# Altium footprint library Devices.PcbLib: 12 footprints
Each footprint in its own frame and in the unit in brackets; x right, y up, seen from the top. Pads: shape width x height; smd on the part's side, far side on the other; paste and mask are expansions set on the pad; w line width, h text height; cw(c..) or ccw(c..) is an arc to the next point about the centre after c.
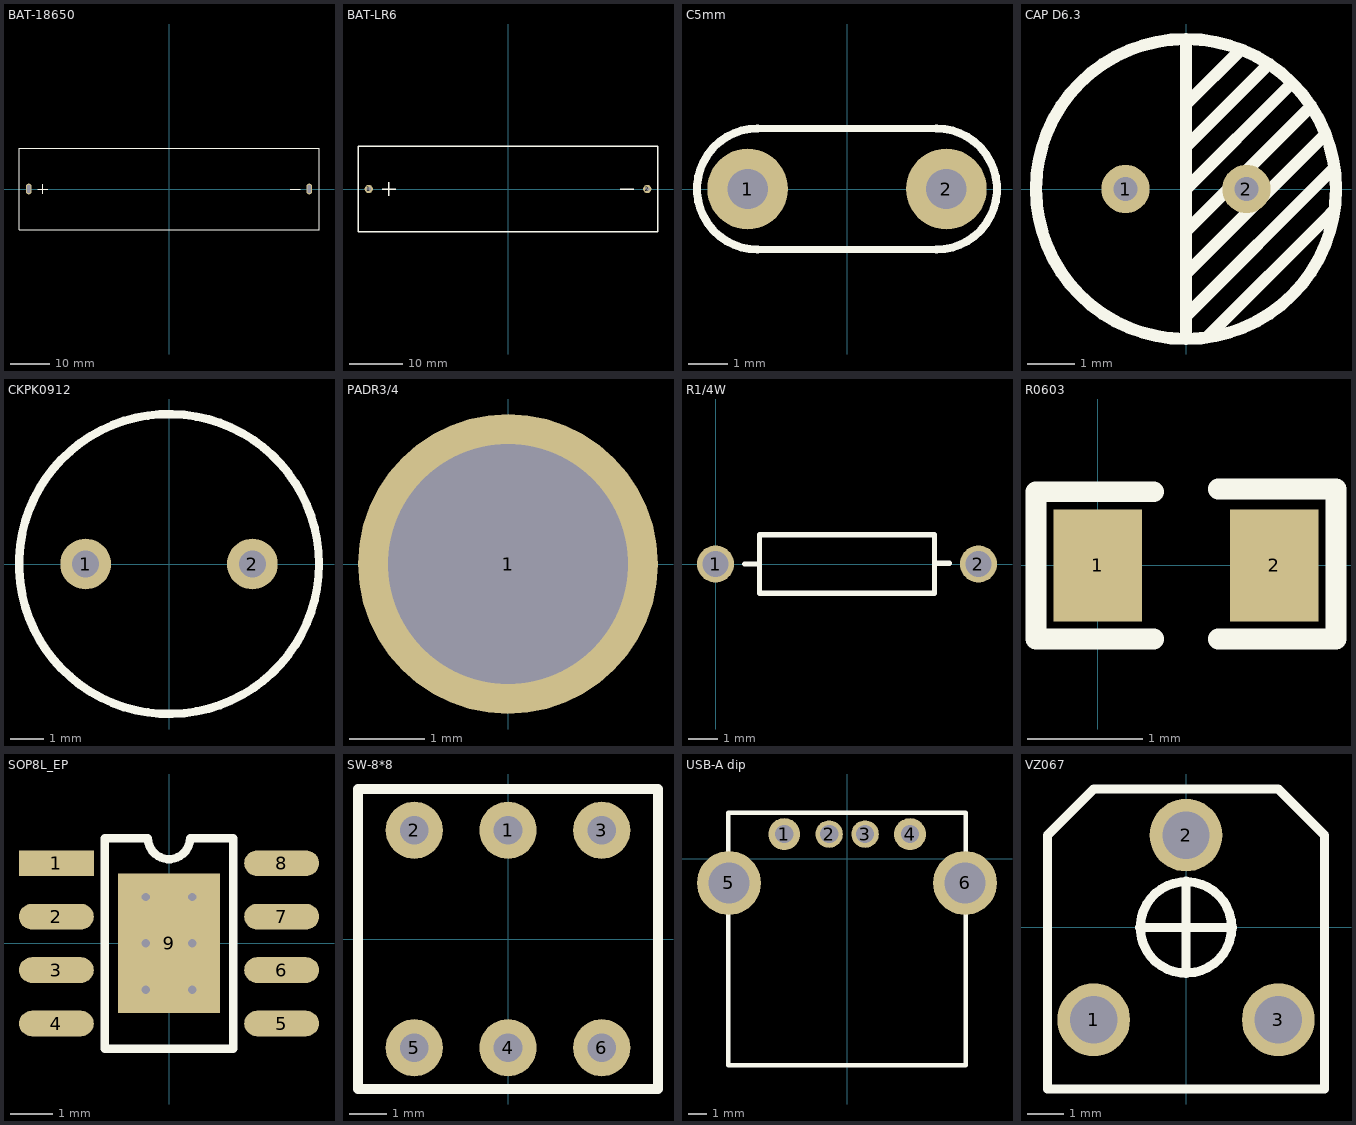
[diagram p0: the footprints below, top view; thin cyan lines are the x and y axes]

## BAT-18650 [mil]
height 826.77
pads (2):
  oval 60x108.74 hole 30 slot 78.74 at 90 deg: 1(-1417.32,0) 2(1417.32,0)
Top Overlay:
  lines w10: -1325,0 -1225,0 ; -1275,-50 -1275,50 ; 1225,0 1325,0 ; -1515.75,-413.39 1515.75,-413.39 1515.75,413.39 -1515.75,413.39 -1515.75,-413.39

## BAT-LR6 [mil]
height 551.18
pads (2):
  round 60 hole 30: 1(-1023.62,0) 2(1023.62,0)
Top Overlay:
  lines w10: -925,0 -825,0 ; -875,-50 -875,50 ; 825,0 925,0 ; -1102.36,-314.96 -1102.36,314.96 1102.36,314.96 1102.36,-314.96 -1102.36,-314.96

## C5mm [mil]
pads (2):
  round 80 hole 40: 1(-98.43,0) 2(98.43,0)
Top Overlay:
  lines w7: -88.58,-60 88.58,-60 ; -88.58,60 91.42,60
  lines w8: -88.58,-60 cw(c-88.58,0) -88.58,60 ; 88.58,-60 ccw(c88.58,0) 88.58,60
3D body "capacitor.stp": height 196.55, standoff -47.21, extent -108.28,-49.21 108.29,49.22

## CAP D6.3 [mil] "D=6.3mm"
pads (2):
  round 40 hole 20: 1(-50,0) 2(50,0)
Top Overlay:
  circle w10: c0,0 r124.02
  lines w10: 0,-124.02 0,124.02 ; 0,-105 120,15 ; 0,-70 113,43 ; 0,-35 100,65 ; 0,0 85,85 ; 0,35 65,100 ; 0,70 45,115 ; 18,-122 120,-20

## CKPK0912 [mil] "0912"
height 472.44
pads (2):
  round 60 hole 32: 1(-98.43,0) 2(98.43,0)
Top Overlay:
  circle w10: c0,0 r177.17

## PADR3/4 [mm]
pads (1):
  round 4 hole 3.2: 1(0,0)

## R1/4W [mil]
pads (2):
  round 50 hole 35: 1(0,0) 2(354.33,0)
Top Overlay:
  lines w7: 39.37,0 59.06,0 ; 295.28,1 314.96,1 ; 59.06,-39.37 295.28,-39.37 295.28,39.37 59.06,39.37 59.06,-39.37
3D body "1-4w.stp": height 78.74, standoff -59.06, extent -11.01,-40 363.01,38.74

## R0603 [mil]
pads (2):
  rect 30x38 smd: 1(0,0) 2(60,0)
Top Overlay:
  lines w7: 19,-25 -21,-25 -21,25 19,25 ; 41,-25 81,-25 81,26 41,26
3D body "r0603.stp": height 21.65, standoff 0, extent -4.44,-18.69 64.45,18.71

## SOP8L_EP [mil]
height 69.29
pads (9):
  rect 70x24 smd: 1(-105.31,75)
  oval 70x24 smd: 2(-105.31,25) 3(-105.31,-25) 4(-105.31,-75) 5(105.31,-75) 6(105.31,-25) 7(105.31,25) 8(105.31,75)
  rect 95.28x130.31 smd: 9(0,0)
via 21.65,-43.31 diameter 19.68 hole 7.87
via -21.65,-43.31 diameter 19.68 hole 7.87
via 21.65,0 diameter 19.68 hole 7.87
via -21.65,0 diameter 19.68 hole 7.87
via 21.65,43.31 diameter 19.68 hole 7.87
via -21.65,43.31 diameter 19.68 hole 7.87
Top Overlay:
  lines w7.87: -60,-98.43 -60,98.43 -19.68,98.43 ccw(c0,98.43) 19.68,98.43 60,98.43 60,-98.43 -60,-98.43
Mechanical 15:
  lines w3.94: -19.69,0 19.68,0 ; 0,-19.68 0,19.68
3D body "SOP_8.stp": height 66.93, standoff 0, extent -118,-96.46 118.22,96.46

## SW-8*8 [mil]
height 551.18
pads (6):
  round 60 hole 30: 1(0,114.17) 2(-98.43,114.17) 3(98.43,114.17) 4(0,-114.17) 5(-98.43,-114.17) 6(98.43,-114.17)
Top Overlay:
  lines w10: -157.48,-157.48 157.48,-157.48 157.48,157.48 -157.48,157.48 -157.48,-157.48

## USB-A dip [mil]
pads (6):
  round 70 hole 40: 1(-137.5,53.5) 4(138.1,53.5)
  round 60 hole 40: 2(-39.1,53.5) 3(39.7,53.5)
  round 140 hole 90: 5(-258.7,-53.5) 6(258.7,-53.5)
Top Overlay:
  lines w10: -259.84,-452.76 259.84,-452.76 259.84,100 -259.84,100 -259.84,-452.76

## VZ067 [mm] "VZ067 Variable Resistor"
pads (3):
  round 2 hole 1.3: 1(-2.54,-2.54) 2(0,2.54) 3(2.54,-2.54)
Top Overlay:
  circle w0.254: c0,0 r1.257
  lines w0.254: -1.27,0 1.27,0 ; 0,-1.27 0,1.27 ; -3.81,-4.445 -3.81,2.54 -2.54,3.81 2.54,3.81 3.81,2.54 3.81,-4.445 -3.81,-4.445